# Altium footprint library MODULE_DC2DC.PcbLib: 41 footprints (part 1 of 3)
Each footprint in its own frame and in the unit in brackets; x right, y up, seen from the top. Pads: shape width x height; smd on the part's side, far side on the other; paste and mask are expansions set on the pad; w line width, h text height; cw(c..) or ccw(c..) is an arc to the next point about the centre after c.
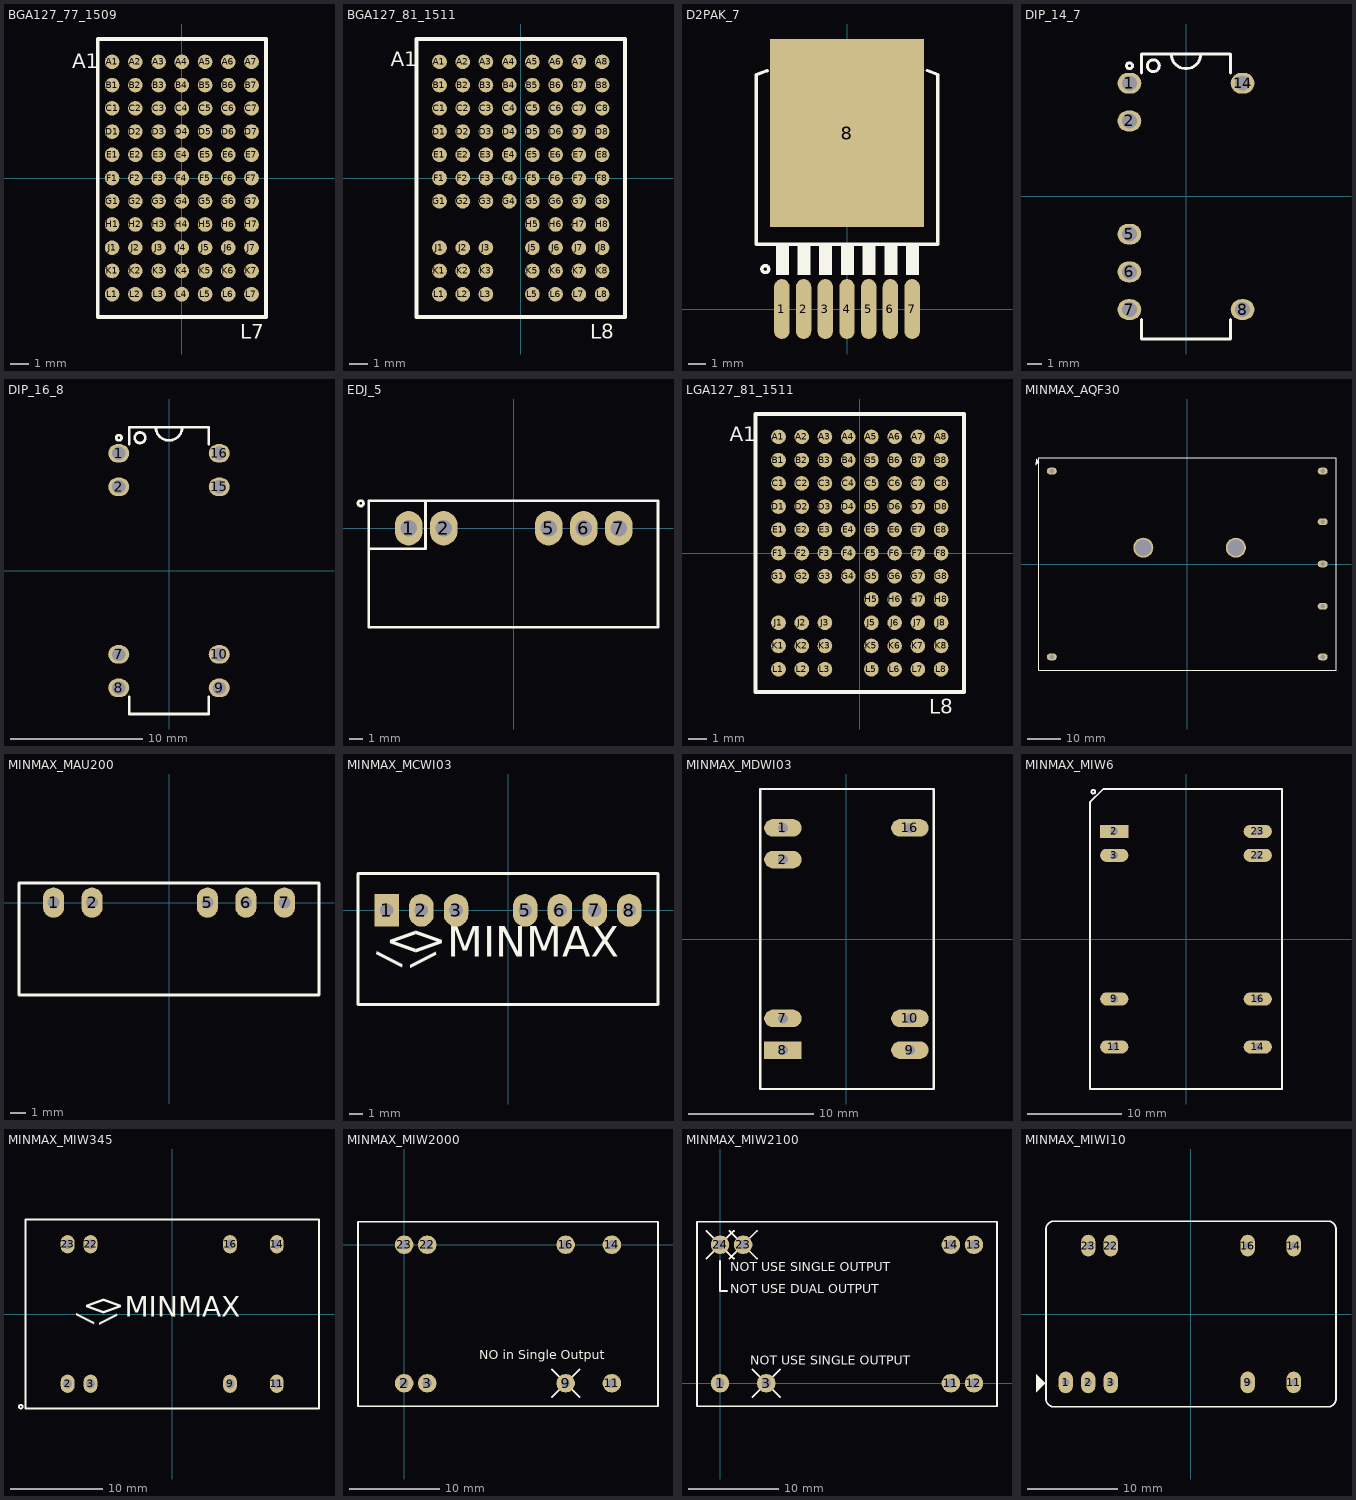
[diagram p0: the footprints below, top view; thin cyan lines are the x and y axes]

## BGA127_77_1509 [mm] "LTM8026, BGA 8X11ball, pitch: 1.27mm, 9X15mm"
height 5
pads (77):
  round 0.8 smd mask-0.075: A1(-3.81,6.35) A2(-2.54,6.35) A3(-1.27,6.35) A4(0,6.35) A5(1.27,6.35) A6(2.54,6.35) A7(3.81,6.35) B1(-3.81,5.08) B2(-2.54,5.08) B3(-1.27,5.08) B4(0,5.08) B5(1.27,5.08) B6(2.54,5.08) B7(3.81,5.08) C1(-3.81,3.81) C2(-2.54,3.81) C3(-1.27,3.81) C4(0,3.81) C5(1.27,3.81) C6(2.54,3.81) C7(3.81,3.81) D1(-3.81,2.54) D2(-2.54,2.54) D3(-1.27,2.54) D4(0,2.54) D5(1.27,2.54) D6(2.54,2.54) D7(3.81,2.54) E1(-3.81,1.27) E2(-2.54,1.27) E3(-1.27,1.27) E4(0,1.27) E5(1.27,1.27) E6(2.54,1.27) E7(3.81,1.27) F1(-3.81,0) F2(-2.54,0) F3(-1.27,0) F4(0,0) F5(1.27,0) F6(2.54,0) F7(3.81,0) G1(-3.81,-1.27) G2(-2.54,-1.27) G3(-1.27,-1.27) G4(0,-1.27) G5(1.27,-1.27) G6(2.54,-1.27) G7(3.81,-1.27) H1(-3.81,-2.54) H2(-2.54,-2.54) H3(-1.27,-2.54) H4(0,-2.54) H5(1.27,-2.54) H6(2.54,-2.54) H7(3.81,-2.54) J1(-3.81,-3.81) J2(-2.54,-3.81) J3(-1.27,-3.81) J4(0,-3.81) J5(1.27,-3.81) J6(2.54,-3.81) J7(3.81,-3.81) K1(-3.81,-5.08) K2(-2.54,-5.08) K3(-1.27,-5.08) K4(0,-5.08) K5(1.27,-5.08) K6(2.54,-5.08) K7(3.81,-5.08) L1(-3.81,-6.35) L2(-2.54,-6.35) L3(-1.27,-6.35) L4(0,-6.35) L5(1.27,-6.35) L6(2.54,-6.35) L7(3.81,-6.35)
Top Overlay:
  lines w0.2: -4.6,-7.6 -4.6,7.6 4.6,7.6 4.6,-7.6 -4.6,-7.6
  text "L7" at 3.2,-8.8 h0.8
  text "A1" at -6,6 h0.8
3D body: height 5, standoff 0, extent -4.5,-7.5 4.5,7.5

## BGA127_81_1511 [mm] "LTM8026, BGA 8X11ball, pitch: 1.27mm, 15x11.25mm"
height 3.4
pads (81):
  round 0.8 smd: A1(-4.445,6.35) A2(-3.175,6.35) A3(-1.905,6.35) A4(-0.635,6.35) A5(0.635,6.35) A6(1.905,6.35) A7(3.175,6.35) A8(4.445,6.35) B1(-4.445,5.08) B2(-3.175,5.08) B3(-1.905,5.08) B4(-0.635,5.08) B5(0.635,5.08) B6(1.905,5.08) B7(3.175,5.08) B8(4.445,5.08) C1(-4.445,3.81) C2(-3.175,3.81) C3(-1.905,3.81) C4(-0.635,3.81) C5(0.635,3.81) C6(1.905,3.81) C7(3.175,3.81) C8(4.445,3.81) D1(-4.445,2.54) D2(-3.175,2.54) D3(-1.905,2.54) D4(-0.635,2.54) D5(0.635,2.54) D6(1.905,2.54) D7(3.175,2.54) D8(4.445,2.54) E1(-4.445,1.27) E2(-3.175,1.27) E3(-1.905,1.27) E4(-0.635,1.27) E5(0.635,1.27) E6(1.905,1.27) E7(3.175,1.27) E8(4.445,1.27) F1(-4.445,0) F2(-3.175,0) F3(-1.905,0) F4(-0.635,0) F5(0.635,0) F6(1.905,0) F7(3.175,0) F8(4.445,0) G1(-4.445,-1.27) G2(-3.175,-1.27) G3(-1.905,-1.27) G4(-0.635,-1.27) G5(0.635,-1.27) G6(1.905,-1.27) G7(3.175,-1.27) G8(4.445,-1.27) H5(0.635,-2.54) H6(1.905,-2.54) H7(3.175,-2.54) H8(4.445,-2.54) J1(-4.445,-3.81) J2(-3.175,-3.81) J3(-1.905,-3.81) J5(0.635,-3.81) J6(1.905,-3.81) J7(3.175,-3.81) J8(4.445,-3.81) K1(-4.445,-5.08) K2(-3.175,-5.08) K3(-1.905,-5.08) K5(0.635,-5.08) K6(1.905,-5.08) K7(3.175,-5.08) K8(4.445,-5.08) L1(-4.445,-6.35) L2(-3.175,-6.35) L3(-1.905,-6.35) L5(0.635,-6.35) L6(1.905,-6.35) L7(3.175,-6.35) L8(4.445,-6.35)
Top Overlay:
  lines w0.2: -5.7,-7.6 -5.7,7.6 5.7,7.6 5.7,-7.6 -5.7,-7.6
  text "L8" at 3.8,-8.8 h0.8
  text "A1" at -7.1,6.1 h0.8
3D body: height 3.4, standoff 0, extent -5.6,-7.5 5.6,7.5

## D2PAK_7 [mm] "TO-263-7, D2PAK-7, NDW-7, TO-PMOD-7"
pads (8):
  oval 0.9x3.5 smd: 1(-3.81,0) 2(-2.54,0) 3(-1.27,0) 4(0,0) 5(1.27,0) 6(2.54,0) 7(3.81,0)
  rect 9x11 smd: 8(0,10.3)
Top Overlay:
  circle w0.2: c-4.779,2.34 r0.2
  rectangle: 3.454,2 4.216,3.8
  rectangle: 2.184,2 2.946,3.8
  rectangle: 0.914,2 1.676,3.8
  rectangle: -0.356,2 0.406,3.8
  rectangle: -1.626,2 -0.864,3.8
  rectangle: -2.896,2 -2.134,3.8
  rectangle: -4.166,2 -3.404,3.8
  lines w0.2: -4.658,13.952 -5.3,13.709 -5.3,3.8 5.3,3.8 5.3,13.724 4.684,13.958
3D body "User Library-D2PAK-7.step": height 4.5, standoff 0, extent -5.2,-1.6 5.2,14.074

## DIP_14_7 [mm] "DIP, pitch 2.54mm, 300mil Width"
pads (7):
  oval 1.6x1.4 / inner round 1.4 / far side oval 2.2x1.4 hole 1: 1(-3.81,7.62) 2(-3.81,5.08) 5(-3.81,-2.54) 6(-3.81,-5.08) 7(-3.81,-7.62) 8(3.81,-7.62) 14(3.81,7.62)
Top Overlay:
  circle w0.2: c-3.8,8.8 r0.2
  circle w0.2: c-2.2,8.8 r0.4
  lines w0.2: -3,-8.3 -3,-9.6 3,-9.6 3,-8.3 ; -3,8.3 -3,9.6 3,9.6 3,8.3 ; -1,9.6 ccw(c0,9.6) 1,9.6
3D body "CircuitWorks-DIP-14.step": height 3.81, standoff -3.17, extent -4,-9.525 4,9.525

## DIP_16_8 [mm] "DIP, pitch 2.54mm, 300mil Width 8PIN NVF"
pads (8):
  oval 1.6x1.4 / inner round 1.4 / far side oval 2.2x1.4 hole 1: 1(-3.81,8.89) 2(-3.81,6.35) 7(-3.81,-6.35) 8(-3.81,-8.89) 9(3.81,-8.89) 10(3.81,-6.35) 15(3.81,6.35) 16(3.81,8.89)
Top Overlay:
  circle w0.2: c-2.2,10.07 r0.4
  circle w0.2: c-3.8,10.07 r0.2
  lines w0.2: -3,-9.57 -3,-10.87 3,-10.87 3,-9.57 ; -3,9.57 -3,10.87 3,10.87 3,9.57 ; -1,10.87 ccw(c0,10.87) 1,10.87
3D body "User Library-ISO_DIP_NVF.STEP": height 5.33, standoff -3.81, extent -3.995,-10.67 3.995,10.67

## EDJ_5 [mm] "EDJ R-PDSS-T5 TI 10X7.6mm"
pads (5):
  oval 2x2.5 hole 1.2 mask+0.1: 1(-7.62,0) 2(-5.08,0) 5(2.54,0) 6(5.08,0) 7(7.62,0)
Top Overlay:
  circle w0.2: c-11.1,1.8 r0.2
  lines w0.2: -10.52,-1.5 -6.4,-1.5 -6.4,2 ; -10.52,-7.2 10.48,-7.2 10.48,2 -10.52,2 -10.52,-7.2
3D body: height 10, standoff 0, extent -9.82,-6.4 9.78,-0.2
3D body: height 1, standoff -2, extent -7.87,-0.25 -7.37,0.25
3D body: height 1, standoff -2, extent -5.33,-0.25 -4.83,0.25
3D body: height 1, standoff -2, extent 2.29,-0.25 2.79,0.25
3D body: height 1, standoff -2, extent 4.83,-0.25 5.33,0.25
3D body: height 1, standoff -2, extent 7.37,-0.25 7.87,0.25

## LGA127_81_1511 [mm] "LTM8026, LGA 8X11ball, pitch: 1.27mm, 15x11.25mm"
height 2.8
pads (81):
  round 0.8 smd mask-0.075: A1(-4.445,6.35) A2(-3.175,6.35) A3(-1.905,6.35) A4(-0.635,6.35) A5(0.635,6.35) A6(1.905,6.35) A7(3.175,6.35) A8(4.445,6.35) B1(-4.445,5.08) B2(-3.175,5.08) B3(-1.905,5.08) B4(-0.635,5.08) B5(0.635,5.08) B6(1.905,5.08) B7(3.175,5.08) B8(4.445,5.08) C1(-4.445,3.81) C2(-3.175,3.81) C3(-1.905,3.81) C4(-0.635,3.81) C5(0.635,3.81) C6(1.905,3.81) C7(3.175,3.81) C8(4.445,3.81) D1(-4.445,2.54) D2(-3.175,2.54) D3(-1.905,2.54) D4(-0.635,2.54) D5(0.635,2.54) D6(1.905,2.54) D7(3.175,2.54) D8(4.445,2.54) E1(-4.445,1.27) E2(-3.175,1.27) E3(-1.905,1.27) E4(-0.635,1.27) E5(0.635,1.27) E6(1.905,1.27) E7(3.175,1.27) E8(4.445,1.27) F1(-4.445,0) F2(-3.175,0) F3(-1.905,0) F4(-0.635,0) F5(0.635,0) F6(1.905,0) F7(3.175,0) F8(4.445,0) G1(-4.445,-1.27) G2(-3.175,-1.27) G3(-1.905,-1.27) G4(-0.635,-1.27) G5(0.635,-1.27) G6(1.905,-1.27) G7(3.175,-1.27) G8(4.445,-1.27) H5(0.635,-2.54) H6(1.905,-2.54) H7(3.175,-2.54) H8(4.445,-2.54) J1(-4.445,-3.81) J2(-3.175,-3.81) J3(-1.905,-3.81) J5(0.635,-3.81) J6(1.905,-3.81) J7(3.175,-3.81) J8(4.445,-3.81) K1(-4.445,-5.08) K2(-3.175,-5.08) K3(-1.905,-5.08) K5(0.635,-5.08) K6(1.905,-5.08) K7(3.175,-5.08) K8(4.445,-5.08) L1(-4.445,-6.35) L2(-3.175,-6.35) L3(-1.905,-6.35) L5(0.635,-6.35) L6(1.905,-6.35) L7(3.175,-6.35) L8(4.445,-6.35)
Top Overlay:
  lines w0.2: -5.7,-7.6 5.7,-7.6 5.7,7.6 -5.7,7.6 -5.7,-7.6
  text "A1" at -7.1,6.1 h0.8
  text "L8" at 3.8,-8.8 h0.8
3D body: height 2.8, standoff 0, extent -5.6,-7.5 5.6,7.5

## MINMAX_AQF30 [mm] "DC-DC Module, AQF-30"
pads (9):
  oval 3x2 hole 1.4: 1(-40.65,27.9) 2(-40.65,-27.9) 3(40.65,27.9) 4(40.65,12.7) 5(40.65,0) 6(40.65,-12.7) 7(40.65,-27.9)
  round 6 hole 5: ""(-13.2,4.9) ""(14.6,4.9)
Top Overlay:
  region: -44.4,30.6 -45.4,31.6 -45.4,29.6
  lines w0.2: -44.55,-31.9 -44.55,31.9 44.65,31.9 44.65,-31.9 -44.55,-31.9
3D body "AQF-30 3D Mechanical(PCB).stp": height 21.5, standoff -6.7, extent -44.409,-31.759 44.509,31.759

## MINMAX_MAU200 [mm] "DC-DC Module, MAU200"
pads (5):
  oval 1.4x2 hole 0.8: 1(-7.62,0) 2(-5.08,0) 5(2.54,0) 6(5.08,0) 7(7.62,0)
Top Overlay:
  lines w0.2: -9.9,-6.1 -9.9,1.3 9.9,1.3 9.9,-6.1 -9.9,-6.1
3D body "MAU200 3D Mechanical(Vin=15, 24V).stp": height 10, standoff -3.2, extent -9.75,-6 9.75,1.2

## MINMAX_MCWI03 [mm] "DC-DC Module, MINMAX MCWI03, MCWI05"
height 0.254
pads (7):
  rect 1.8x2.4 hole 1: 1(-8.89,0)
  oval 1.8x2.4 hole 1: 2(-6.35,0) 3(-3.81,0) 5(1.27,0) 6(3.81,0) 7(6.35,0) 8(8.89,0)
Top Overlay:
  lines w0.2: -11,-6.9 11,-6.9 11,2.7 -11,2.7 -11,-6.9
  text "\" at -4.707,-3.9 h3.56
  text ">" at -7.057,-3.975 h3.81
  text "<" at -8.957,-3.975 h3.81
  text "MINMAX" at -4.437,-4.125 h3.81
  text "/" at -7.357,-4.275 h3.56
3D body "MCWI05 3D Mechanical.stp": height 11.5, standoff -3.15, extent -10.9,-6.75 10.9,2.55

## MINMAX_MDWI03 [mm] "DC-DC Module, MINMAX MDWI03"
pads (7):
  oval 3x1.4 hole 0.8: 1(-5.08,8.89) 2(-5.08,6.35) 7(-5.08,-6.35) 9(5.08,-8.89) 10(5.08,-6.35) 16(5.08,8.89)
  rect 3x1.4 hole 0.8: 8(-5.08,-8.89)
Top Overlay:
  lines w0.2: -6.9,-12 -6.9,12 7,12 7,-12 -6.9,-12
3D body "MDWI03 3D Mechanical.stp": height 8.3, standoff -3.8, extent -6.847,-11.9 6.848,11.9

## MINMAX_MIW6 [mm] "DC-DC Module, MINMAX MIW6"
pads (8):
  rect 3x1.4 hole 0.8: 2(-7.62,11.43)
  oval 3x1.4 hole 0.8: 3(-7.62,8.89) 9(-7.62,-6.35) 11(-7.62,-11.43) 14(7.62,-11.43) 16(7.62,-6.35) 22(7.62,8.89) 23(7.62,11.43)
Top Overlay:
  circle w0.2: c-9.836,15.637 r0.2
  lines w0.2: -10.2,-15.9 -10.2,14.5 -8.77,15.93 10.2,15.93 10.2,-15.9 -10.2,-15.9
3D body "MIWI06 3D Mechanical.stp": height 10.5, standoff -4.05, extent -10.1,-15.84 10.1,15.84

## MINMAX_MIW345 [mm] "MINMAX_MIW3000 MIW4000 MIW5000"
pads (8):
  oval 1.5x2 hole 1: 2(-11.4,-7.6) 3(-8.9,-7.6) 9(6.3,-7.6) 11(11.4,-7.6) 14(11.4,7.6) 16(6.3,7.6) 22(-8.9,7.6) 23(-11.4,7.6)
Top Overlay:
  circle w0.2: c-16.5,-10.1 r0.2
  lines w0.2: -16,-10.3 16,-10.3 16,10.3 -16,10.3 -16,-10.3
  text "\" at -5.45,-0.827 h3.56
  text ">" at -7.8,-0.902 h3.81
  text "<" at -9.7,-0.902 h3.81
  text "MINMAX" at -5.18,-1.052 h3.81
  text "/" at -8.1,-1.202 h3.56
3D body "User Library-MIW4036.step": height 10.25, standoff -4, extent -15.9,-10.15 15.9,10.15

## MINMAX_MIW2000 [mil]
pads (8):
  round 80 hole 39.37: 2(0,-600) 3(100,-600) 9(700,-600) 11(900,-600) 14(900,0) 16(700,0) 22(100,0) 23(0,0)
Top Overlay:
  lines w7.87: 640,-660 760,-540 ; 640,-540 760,-660 ; -200,-700 1100,-700 1100,100 -200,100 -200,-700
  text "NO in Single Output" at 325,-495 h40

## MINMAX_MIW2100 [mil]
pads (8):
  round 80 hole 39.37: 1(0,0) 3(200,0) 11(1000,0) 12(1100,0) 13(1100,600) 14(1000,600) 23(100,600) 24(0,600)
Top Overlay:
  lines w7.87: -60,540 60,660 ; -60,660 60,540 ; 0,530 0,400 30,400 ; 40,540 160,660 ; 40,660 160,540 ; 140,-60 260,60 ; 140,60 260,-60 ; -100,-100 -100,700 1200,700 1200,-100 -100,-100
  text "NOT USE SINGLE OUTPUT" at 45,485 h40
  text "NOT USE SINGLE OUTPUT" at 130,80 h40
  text "NOT USE DUAL OUTPUT" at 45,390 h40

## MINMAX_MIWI10 [mm] "DC-DC Module, 20.3X31.8mm,"
height 10.2
pads (9):
  oval 1.6x2.4 hole 0.8: 1(-13.9,-7.6) 2(-11.4,-7.6) 3(-8.9,-7.6) 9(6.3,-7.6) 11(11.4,-7.6) 14(11.4,7.6) 16(6.3,7.6) 22(-8.9,7.6) 23(-11.4,7.6)
Top Overlay:
  region: -16.2,-7.7 -17.2,-6.7 -17.2,-8.7
  lines w0.2: -16.1,-9.4 ccw(c-15.2,-9.4) -15.2,-10.3 15.2,-10.3 ccw(c15.2,-9.4) 16.1,-9.4 16.1,9.4 ccw(c15.2,9.4) 15.2,10.3 -15.2,10.3 ccw(c-15.2,9.4) -16.1,9.4 -16.1,-9.4
3D body "MIWI10 3D Mechanical.stp": height 10.5, standoff -3.8, extent -15.925,-10.15 15.925,10.15